# Altium schematic symbol library RF Switches.SchLib: 21 symbols
Pins are listed as number, name and electrical type; pins without a type are passive.

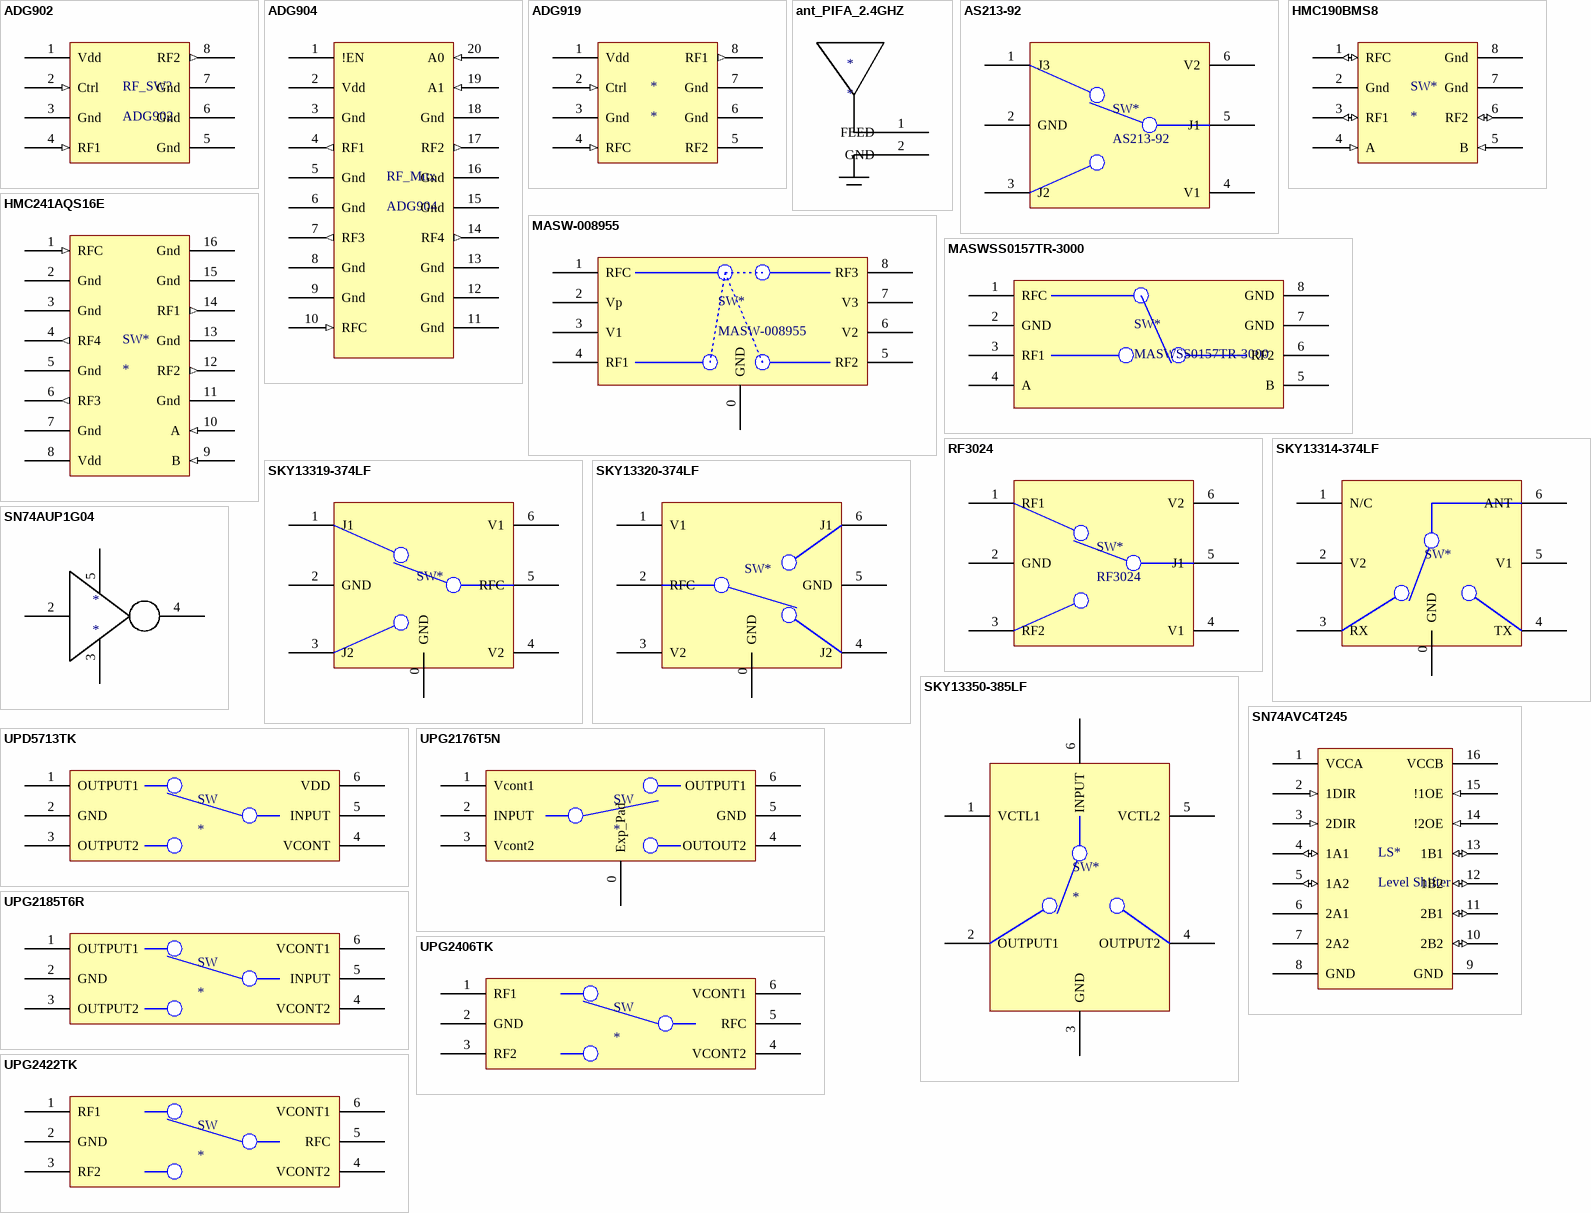
[diagram p0: symbols ADG902 to UPG2422TK]

## ADG902
designator RF_SW?
RF SPDT switch - Reflective
footprint MSOP_8pin
pins: 1 Vdd (power), 2 Ctrl (in), 3 Gnd (power), 4 RF1 (in), 5 Gnd (power), 6 Gnd (power), 7 Gnd (power), 8 RF2 (out)

## ADG904
designator RF_Mux
4:1 Mux/SP4T
footprint 20TSSOP-0.65-PITCH
pins: 1 !EN (power), 2 Vdd (power), 3 Gnd (power), 4 RF1 (out), 5 Gnd (power), 6 Gnd (power), 7 RF3 (out), 8 Gnd (power), 9 Gnd (power), 10 RFC (in), 11 Gnd (power), 12 Gnd (power), 13 Gnd (power), 14 RF4 (out), 15 Gnd (power), 16 Gnd (power), 17 RF2 (out), 18 Gnd (power), 19 A1 (in), 20 A0 (in)

## ADG919
designator *
RF 2:1 MUX/SPDT Reflective
footprint MSOP_8pin
pins: 1 Vdd (power), 2 Ctrl (in), 3 Gnd (power), 4 RFC (in), 5 RF2 (power), 6 Gnd (power), 7 Gnd (power), 8 RF1 (out)

## ant_PIFA_2.4GHZ
designator *  (net tie, no BOM)
footprint ANT_PIFA_2.4GHz (2.4 ghz pifa antenna designed in HFSS)
pins: 1 FEED, 2 GND

## AS213-92
designator SW*
footprint SC70-6
pins: 1 J3, 2 GND, 3 J2, 4 V1, 5 J1, 6 V2

## HMC190BMS8
designator SW*
RF 2:1 MUX/SPDT Reflective
footprint MSOP_8pin
pins: 1 RFC (io), 2 Gnd (power), 3 RF1 (io), 4 A (in), 5 B (in), 6 RF2 (io), 7 Gnd (power), 8 Gnd (power)

## HMC241AQS16E
designator SW*
SP4T switch
footprint HMC241AQS16E (SP4T switch)
pins: 1 RFC (in), 2 Gnd (power), 3 Gnd (power), 4 RF4 (out), 5 Gnd (power), 6 RF3 (out), 7 Gnd (power), 8 Vdd (power), 9 B (in), 10 A (in), 11 Gnd (power), 12 RF2 (out), 13 Gnd (power), 14 RF1 (out), 15 Gnd (power), 16 Gnd (power)

## MASW-008955
designator SW*
SP3T switch
footprint 8PDFN (MASW-008955)
pins: 0 GND, 1 RFC, 2 Vp, 3 V1, 4 RF1, 5 RF2, 6 V2, 7 V3, 8 RF3

## MASWSS0157TR-3000
designator SW*
SPDT throw switch (very fast)
footprint SOIC-8 (For MASWSS0157)
pins: 1 RFC, 2 GND, 3 RF1, 4 A, 5 B, 6 RF2, 7 GND, 8 GND

## RF3024
designator SW*
footprint SC70-6
pins: 1 RF1, 2 GND, 3 RF2, 4 V1, 5 J1, 6 V2

## SKY13314-374LF
designator SW*  (value not drawn)
GaAs SPDT Switch
footprint 6-MLPD-1.5-Skyworks (6-MLPD(1.5x1.5) For Skyworks Switches)
pins: 0 GND, 1 N/C, 2 V2, 3 RX, 4 TX, 5 V1, 6 ANT

## SKY13319-374LF
designator SW*  (value not drawn)
GaAs SPDT Switch
footprint 6-MLPD-1.5-Skyworks (6-MLPD(1.5x1.5) For Skyworks Switches)
pins: 0 GND, 1 J1, 2 GND, 3 J2, 4 V2, 5 RFC, 6 V1

## SKY13320-374LF
designator SW*  (value not drawn)
GaAs SPDT Switch
footprint 6-MLPD-1.5-Skyworks (6-MLPD(1.5x1.5) For Skyworks Switches)
pins: 0 GND, 1 V1, 2 RFC, 3 V2, 4 J2, 5 GND, 6 J1

## SKY13350-385LF
designator SW*
GaAs SPDT Switch
footprint 6-MLPD-1-Skyworks (6-MLPD(1x1) For Skyworks Switches)
pins: 1 VCTL1, 2 OUTPUT1, 3 GND, 4 OUTPUT2, 5 VCTL2, 6 INPUT

## SN74AUP1G04
designator *
Inverter by TI
footprint SC70-5
pins: 2 A, 3 GND, 4 Y, 5 VDD

## SN74AVC4T245
designator LS*, comment Level Shifter
4 bit noninverting bi-directional level shifter
footprint 16SOIC (For the level shifter)
pins: 1 VCCA (power), 2 1DIR (in), 3 2DIR (in), 4 1A1 (io), 5 1A2 (io), 6 2A1, 7 2A2, 8 GND (power), 9 GND (power), 10 2B2 (io), 11 2B1 (io), 12 1B2 (io), 13 1B1 (io), 14 !2OE (in), 15 !1OE (in), 16 VCCB (power)

## UPD5713TK
designator SW
CMOS SPDT switch
footprint 6-SMD (6-PIN LEAD-LESS MINIMOLD (1511))
pins: 1 OUTPUT1, 2 GND, 3 OUTPUT2, 4 VCONT, 5 INPUT, 6 VDD

## UPG2176T5N
designator SW
GaAs SPDT switch
footprint 6-TSON (6-TSON XPOSED Pad for CEL)
pins: 0 Exp_Pad, 1 Vcont1, 2 INPUT, 3 Vcont2, 4 OUTOUT2, 5 GND, 6 OUTPUT1

## UPG2185T6R
designator SW
Obselete
pins: 1 OUTPUT1, 2 GND, 3 OUTPUT2, 4 VCONT2, 5 INPUT, 6 VCONT1

## UPG2406TK
designator SW
GaAs SPDT switch
footprint 6-SMD (6-PIN LEAD-LESS MINIMOLD (1511))
pins: 1 RF1, 2 GND, 3 RF2, 4 VCONT2, 5 RFC, 6 VCONT1

## UPG2422TK
designator SW
GaAs SPDT switch
footprint 6-SMD (6-PIN LEAD-LESS MINIMOLD (1511))
pins: 1 RF1, 2 GND, 3 RF2, 4 VCONT2, 5 RFC, 6 VCONT1